# EAGLE library part TPS63061DSC (library AlienWhoop)
TPS6306x High Input Voltage, Buck-Boost Converter With 2-A Switch Current
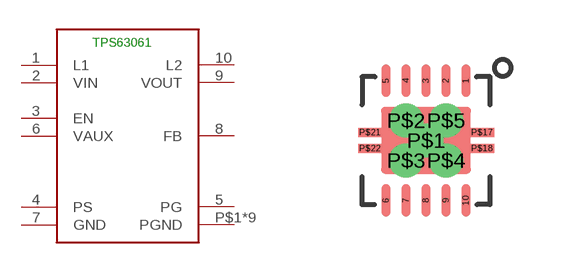
[diagram p1: symbol with the pads of TPS6306X; footprint TPS6306X]

Designator prefix -

## TPS63061DSC5V  [TPS6306X]
1  L1
2  VIN
3  EN
4  PS
5  PG
6  VAUX
7  GND
8  FB
9  VOUT
10  L2
P$1  PGND
P$2  PGND
P$3  PGND
P$4  PGND
P$5  PGND
P$17  PGND
P$18  PGND
P$21  PGND
P$22  PGND

## Footprint TPS6306X (pad centres in mm)
smd 0.23 x 0.811: 1 1,1.5; 2 0.5,1.5; 3 0,1.5; 4 -0.5,1.5; 5 -1,1.5; 6 -1,-1.5; 7 -0.5,-1.5; 8 0,-1.5; 9 0.5,-1.5; 10 1,-1.5
drill 0.35 pad 0.406: P$1 0,0; P$2 -0.5,0.5; P$3 -0.5,-0.5; P$4 0.5,-0.5; P$5 0.5,0.5
smd 0.6 x 0.23: P$17 1.4,0.2; P$18 1.4,-0.2; P$21 -1.4,0.2; P$22 -1.4,-0.2